# Altium schematic symbol library Connectors_Modular_GOST.SchLib: 2 symbols
Pins are listed as number, name and electrical type; pins without a type are passive.

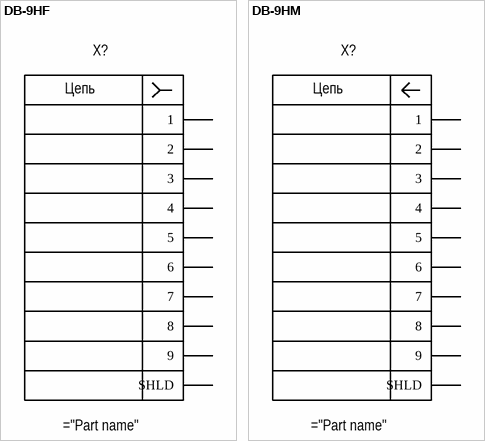
[diagram p0: symbols DB-9HF to DB-9HM]

## DB-9HF
designator X?
pins: 1, 2, 3, 4, 5, 6, 7, 8, 9, SHLD
text: Цепь

## DB-9HM
designator X?
pins: 1, 2, 3, 4, 5, 6, 7, 8, 9, SHLD
text: Цепь